# Altium schematic symbol library SnapEDAsch.SchLib: 1 symbol
Pins are listed as number, name and electrical type; pins without a type are passive.

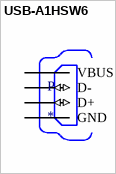
[diagram p0: symbol USB-A1HSW6]

## USB-A1HSW6
designator P
USB-A _USB TYPE-A_  Receptacle Connector 4 Position Through Hole, Right Angle; MP: USB-A1HSW6; MF: On Shore; SnapEDA_Link: https://www.snapeda.com/parts/USB-A1HSW6/On%20Shore%20Technology%20Inc./view-part/13110/?ref=snap; Package: None; Availability: Unavailable; Price: None; Value: *
footprint OST_USB-A1HSW6
footprint OST_USB-A1HSW6
pins: 1 VBUS (power), 2 D- (io), 3 D+ (io), 4 GND (power)